# Altium footprint library PcbLib1.PcbLib: 17 footprints (part 1 of 2)
Each footprint in its own frame and in the unit in brackets; x right, y up, seen from the top. Pads: shape width x height; smd on the part's side, far side on the other; paste and mask are expansions set on the pad; w line width, h text height; cw(c..) or ccw(c..) is an arc to the next point about the centre after c.
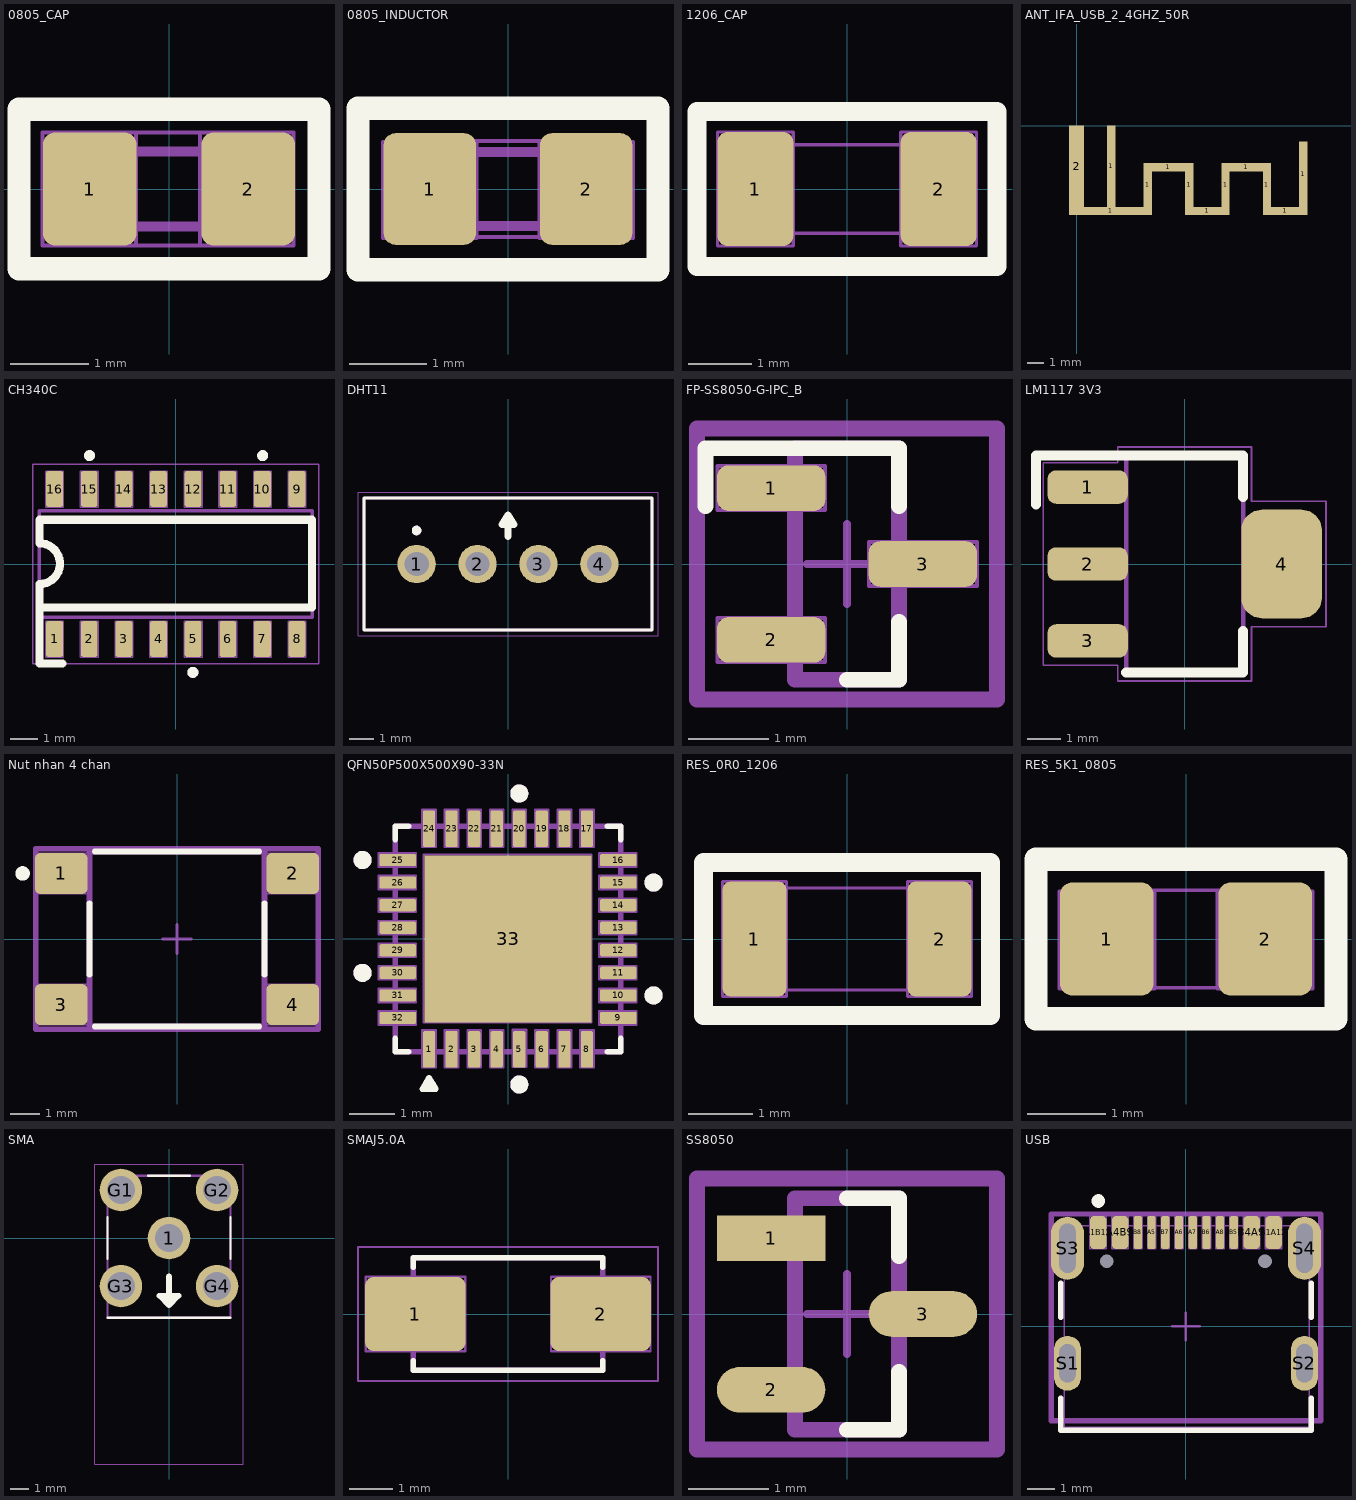
[diagram p0: the footprints below, top view; thin cyan lines are the x and y axes]

## 0805_CAP [mm]
pads (2):
  rrect25% 1.2x1.45 smd: 1(-1.016,0) 2(1.016,0)
Top Overlay:
  lines w0.3: -1.925,-1.025 1.925,-1.025 1.925,1.025 -1.925,1.025 -1.925,-1.025
Mechanical 2:
  lines w0.05: -1,-0.725 -1,0.725 ; -0.425,-0.725 -0.425,0.725 ; 0.4,-0.725 0.4,0.725 ; 1.025,-0.725 1.025,0.725 ; -1.625,-0.725 -1.625,0.725 1.6,0.725 1.6,-0.725 -1.625,-0.725
Mechanical 13:
  lines w0.127: -0.88,-0.48 -0.88,0.48 0.88,0.48 0.88,-0.48 -0.88,-0.48
3D body "CL21B224KAFNNNE.STEP": height 1.22, standoff -0.03, extent -1,-0.675 1,0.675

## 0805_INDUCTOR [mm]
pads (2):
  rrect25% 1.2x1.45 smd: 1(-1.016,0) 2(1.016,0)
Top Overlay:
  lines w0.3: -1.95,-1.05 1.95,-1.05 1.95,1.05 -1.95,1.05 -1.95,-1.05
Mechanical 2:
  lines w0.05: -1.6,0.61 -1.626,0.61 ; 0.85,-0.625 0.9,-0.625 ; -1.626,0.61 -0.406,0.61 -0.406,-0.635 -1.626,-0.635 -1.626,0.61 ; -1,-0.625 1,-0.625 1,0.625 -1,0.625 -1,-0.625 ; 0.406,-0.635 1.626,-0.635 1.626,0.61 0.406,0.61 0.406,-0.635
Mechanical 13:
  lines w0.127: -0.88,-0.48 -0.88,0.48 0.88,0.48 0.88,-0.48 -0.88,-0.48
3D body "step_temp.STEP": height 1, standoff 0, extent -1,-0.625 1,0.625

## 1206_CAP [mm]
pads (2):
  rrect25% 1.2x1.8 smd mask+0.1: 1(-1.45,0) 2(1.45,0)
Top Overlay:
  lines w0.3: -2.375,-1.225 2.375,-1.225 2.375,1.225 -2.375,1.225 -2.375,-1.225
Mechanical 2:
  lines w0.05: -2.05,-0.9 -2.05,0.9 -0.85,0.9 -0.85,-0.9 -2.05,-0.9 ; -1.65,-0.7 1.65,-0.7 1.65,0.7 -1.65,0.7 -1.65,-0.7 ; 0.85,-0.9 0.85,0.9 2.05,0.9 2.05,-0.9 0.85,-0.9
3D body "C1206X104J3REC7210.STEP": height 1.57, standoff -0.03, extent -1.65,-0.7 1.65,0.7

## ANT_IFA_USB_2_4GHZ_50R [mm]
pads (12):
  rect 5x0.5 smd paste+0 mask+0.102: 1(2.05,-5.15)
  rect 0.5x4.9 smd paste+0 mask+0.102: 1(2.1,-2.45)
  rect 0.5x2.64 smd paste+0 mask+0.102: 1(4.3,-3.58) 1(6.8,-3.58) 1(9,-3.58) 1(11.5,-3.58)
  rect 2x0.5 smd paste+0 mask+0.102: 1(5.55,-2.51) 1(10.25,-2.51)
  rect 2.7x0.5 smd paste+0 mask+0.102: 1(7.9,-5.15) 1(12.6,-5.15)
  rect 0.5x3.94 smd paste+0 mask+0.102: 1(13.7,-2.93)
  rect 0.9x4.9 smd paste+0 mask+0.102: 2(0,-2.45)

## CH340C [mm]
pads (16):
  rrect25% 0.62x1.31 smd: 1(-4.445,-2.75) 2(-3.175,-2.75) 3(-1.905,-2.75) 4(-0.635,-2.75) 5(0.635,-2.75) 6(1.905,-2.75) 7(3.175,-2.75) 8(4.445,-2.75) 9(4.445,2.75) 10(3.175,2.75) 11(1.905,2.75) 12(0.635,2.75) 13(-0.635,2.75) 14(-1.905,2.75) 15(-3.175,2.75) 16(-4.445,2.75)
Top Overlay:
  circle w0.2: c-3.165,3.975 r0.1
  circle w0.2: c3.185,3.975 r0.1
  circle w0.2: c0.625,-3.975 r0.1
  lines w0.3: -5,-0.794 -5,-1.6 ; -5,-0.738 ccw(c-5,0.013) -5,0.763 ; -5,0.819 -5,1.625 4.996,1.625 4.996,-1.6 -5,-1.6 ; -4.15,-3.65 -5,-3.65 -5,-1.6
Mechanical 2:
  lines w0.05: -3.475,-2.1 -3.5,-2.1 ; -3.5,-2.1 -2.85,-2.1 -2.85,-3.425 -3.5,-3.425 -3.5,-2.1 ; -4.77,-3.425 -4.12,-3.425 -4.12,-2.1 -4.77,-2.1 -4.77,-3.425 ; -4.77,2.075 -4.12,2.075 -4.12,3.4 -4.77,3.4 -4.77,2.075 ; -3.5,2.075 -2.85,2.075 -2.85,3.4 -3.5,3.4 -3.5,2.075 ; -2.23,-3.425 -1.58,-3.425 -1.58,-2.1 -2.23,-2.1 -2.23,-3.425 ; -2.23,2.075 -1.58,2.075 -1.58,3.4 -2.23,3.4 -2.23,2.075 ; -0.96,-3.425 -0.31,-3.425 -0.31,-2.1 -0.96,-2.1 -0.96,-3.425 ; -0.96,2.075 -0.31,2.075 -0.31,3.4 -0.96,3.4 -0.96,2.075 ; 0.31,-3.425 0.96,-3.425 0.96,-2.1 0.31,-2.1 0.31,-3.425 ; 0.31,2.075 0.96,2.075 0.96,3.4 0.31,3.4 0.31,2.075 ; 1.58,-3.425 2.23,-3.425 2.23,-2.1 1.58,-2.1 1.58,-3.425 ; 1.58,2.075 2.23,2.075 2.23,3.4 1.58,3.4 1.58,2.075 ; 2.85,-3.425 3.5,-3.425 3.5,-2.1 2.85,-2.1 2.85,-3.425 ; 2.85,2.075 3.5,2.075 3.5,3.4 2.85,3.4 2.85,2.075 ; 4.12,-3.425 4.77,-3.425 4.77,-2.1 4.12,-2.1 4.12,-3.425 ; 4.12,2.075 4.77,2.075 4.77,3.4 4.12,3.4 4.12,2.075
  lines w0.127: -5,-1.95 -5,1.95 5,1.95 5,-1.95 -5,-1.95
Mechanical 13:
  circle w0.2: c0.625,-3.975 r0.1
Mechanical 15:
  lines w0.05: -5.25,-3.655 5.25,-3.655 5.25,3.655 -5.25,3.655 -5.25,-3.655
3D body "step_temp.STEP": height 1.8, standoff 0, extent -5,-3 5,3

## DHT11 [mm]
pads (4):
  round 1.6 hole 1.016: 1(-3.81,0) 2(-1.27,0) 3(1.27,0) 4(3.81,0)
Top Overlay:
  circle w0.2: c-3.81,1.397 r0.1
  lines w0.127: -6,-2.75 -6,2.75 6,2.75 6,-2.75 -6,-2.75
  lines w0.3: 0,1.143 0,2.032 ; 0,2.032 0.254,1.651 -0.254,1.651 0,2.032
Mechanical 13:
  circle w0.2: c-3.81,1.397 r0.1
  lines w0.127: -6,-2.75 6,-2.75 6,2.75 -6,2.75 -6,-2.75
Mechanical 15:
  lines w0.05: -6.25,-3 6.25,-3 6.25,3 -6.25,3 -6.25,-3
3D body "ADA386--3DModel-STEP-56544.STEP": height 16, standoff -7.5, extent -6,-2.75 6,2.75

## FP-SS8050-G-IPC_B [mm]
pads (3):
  rrect50% 1.357x0.572 smd paste+0 mask+0: 1(-0.951,0.95) 2(-0.951,-0.95) 3(0.951,0)
Top Overlay:
  lines w0.2: -1.775,0.725 -1.775,1.45 0.65,1.45 0.65,0.725 ; 0,-1.45 0.65,-1.45 0.65,-0.725
Mechanical 2:
  lines w0.05: -1.625,-1.225 -1.625,-0.675 -0.275,-0.675 -0.275,-1.225 -1.625,-1.225 ; -1.625,0.675 -1.625,1.225 -0.275,1.225 -0.275,0.675 -1.625,0.675 ; -0.65,-1.45 0.65,-1.45 0.65,1.45 -0.65,1.45 -0.65,-1.45 ; 0.276,-0.275 0.276,0.275 1.626,0.275 1.626,-0.275 0.276,-0.275
  text ".Designator" at 0,-0.001 h1
Top 3D Body:
  lines w0.2: -0.65,-1.45 -0.65,1.45 0.65,1.45 0.65,-1.45 -0.65,-1.45
Top Courtyard:
  lines w0.2: -1.879,-1.7 -1.879,1.7 1.879,1.7 1.879,-1.7 -1.879,-1.7
Top Assembly:
  lines w0.2: -1.879,-1.7 -1.879,1.7 1.879,1.7 1.879,-1.7 -1.879,-1.7
Top Component Center:
  lines w0.1: -0.5,0 0.5,0 ; 0,-0.5 0,0.5
3D body "Trans_Comchip_SS8050-G_eec.STEP": height 0.25, standoff 0, extent -1.879,-1.7 1.879,1.7

## LM1117 3V3 [mm]
pads (4):
  rrect50% 2.4x1 smd: 1(-2.9,2.3) 2(-2.9,0) 3(-2.9,-2.3)
  rrect50% 2.4x3.25 smd: 4(2.9,0)
Top Overlay:
  lines w0.3: -4.445,1.778 -4.445,3.25 1.75,3.25 1.75,2.01 ; -1.75,-3.25 1.75,-3.25 1.75,-2.01
Mechanical 13:
  lines w0.127: -1.75,-3.25 1.75,-3.25 1.75,3.25 -1.75,3.25 -1.75,-3.25
Mechanical 15:
  lines w0.05: -4.225,-3.025 -2,-3.025 -2,-3.5 2,-3.5 2,-1.875 4.225,-1.875 4.225,1.875 2,1.875 2,3.5 -2,3.5 -2,3.025 -4.225,3.025 -4.225,-3.025
3D body "step_temp.STEP": height 1.8, standoff 0, extent -3.499,-3.25 3.499,3.25

## Nut nhan 4 chan [mm]
pads (4):
  rrect25% 1.8x1.4 smd paste+0 mask+0: 1(-3.975,2.25) 2(3.975,2.25) 3(-3.975,-2.25) 4(3.975,-2.25)
Top Overlay:
  circle w0.25: c-5.3,2.25 r0.125
  lines w0.2: -3,-1.225 -3,1.225 ; -2.825,-3 2.825,-3 ; -2.825,3 2.825,3 ; 3,-1.225 3,1.225
Mechanical 2:
  lines w0.05: -4.875,-2.95 -3.075,-2.95 -3.075,-1.55 -4.875,-1.55 -4.875,-2.95 ; -4.875,1.55 -3.075,1.55 -3.075,2.95 -4.875,2.95 -4.875,1.55 ; -3,-3 -3,3 3,3 3,-3 -3,-3 ; 3.075,-2.95 4.875,-2.95 4.875,-1.55 3.075,-1.55 3.075,-2.95 ; 3.075,1.55 4.875,1.55 4.875,2.95 3.075,2.95 3.075,1.55
  text ".Designator" at 0,0.187 h1
Top 3D Body:
  lines w0.2: -3,-3 3,-3 3,3 -3,3 -3,-3
Top Courtyard:
  lines w0.2: -4.85,-3.1 4.85,-3.1 4.85,3.1 -4.85,3.1 -4.85,-3.1
Top Assembly:
  lines w0.2: -4.85,-3.1 4.85,-3.1 4.85,3.1 -4.85,3.1 -4.85,-3.1
Top Component Center:
  lines w0.1: -0.5,0 0.5,0 ; 0,-0.5 0,0.5
3D body "User Library-PTS645SL43SMTR92-LFS.STEP": height 4.3, standoff 0, extent -4.5,-3 4.5,3

## QFN50P500X500X90-33N [mm]
height 0.9
pads (33):
  rrect25% 0.27x0.81 smd mask+0: 1(-1.75,-2.445) 2(-1.25,-2.445) 3(-0.75,-2.445) 4(-0.25,-2.445) 5(0.25,-2.445) 6(0.75,-2.445) 7(1.25,-2.445) 8(1.75,-2.445) 17(1.75,2.445) 18(1.25,2.445) 19(0.75,2.445) 20(0.25,2.445) 21(-0.25,2.445) 22(-0.75,2.445) 23(-1.25,2.445) 24(-1.75,2.445)
  rrect25% 0.81x0.27 smd mask+0: 9(2.445,-1.75) 10(2.445,-1.25) 11(2.445,-0.75) 12(2.445,-0.25) 13(2.445,0.25) 14(2.445,0.75) 15(2.445,1.25) 16(2.445,1.75) 25(-2.445,1.75) 26(-2.445,1.25) 27(-2.445,0.75) 28(-2.445,0.25) 29(-2.445,-0.25) 30(-2.445,-0.75) 31(-2.445,-1.25) 32(-2.445,-1.75)
  rect 3.7x3.7 smd paste-0.68 mask+0.05: 33(0,0)
Top Overlay:
  circle w0.2: c0.25,-3.225 r0.1
  circle w0.2: c3.225,-1.25 r0.1
  circle w0.2: c3.225,1.25 r0.1
  circle w0.2: c0.25,3.225 r0.1
  circle w0.2: c-3.225,1.75 r0.1
  circle w0.2: c-3.225,-0.75 r0.1
  lines w0.127: -2.5,-2.205 -2.5,-2.5 -2.205,-2.5 ; -2.5,2.205 -2.5,2.5 -2.205,2.5 ; -1.825,-3.2 -1.675,-3.2 ; 2.205,-2.5 2.5,-2.5 2.5,-2.205 ; 2.205,2.5 2.5,2.5 2.5,2.205 ; -1.9,-3.325 -1.6,-3.325 -1.75,-3.075 -1.9,-3.325
Top Solder:
  drawing of 32 lines, arcs and shapes, not listed
Mechanical 2:
  lines w0.05: 2.025,-1.9 2.025,-1.6 ; 2.025,-1.9 2.025,-1.6 ; 2.025,-1.9 2.85,-1.9 ; 2.025,-1.9 2.85,-1.9 ; 2.025,-1.6 2.85,-1.6 ; 2.025,-1.6 2.85,-1.6 ; 2.85,-1.9 2.85,-1.6 ; 2.85,-1.9 2.85,-1.6 ; -2.865,-1.9 -2.865,-1.6 -2.04,-1.6 -2.04,-1.9 -2.865,-1.9 ; -2.865,-1.4 -2.865,-1.1 -2.04,-1.1 -2.04,-1.4 -2.865,-1.4 ; -2.865,-0.9 -2.865,-0.6 -2.04,-0.6 -2.04,-0.9 -2.865,-0.9 ; -2.865,-0.4 -2.865,-0.1 -2.04,-0.1 -2.04,-0.4 -2.865,-0.4 ; -2.865,0.1 -2.865,0.4 -2.04,0.4 -2.04,0.1 -2.865,0.1 ; -2.865,0.6 -2.865,0.9 -2.04,0.9 -2.04,0.6 -2.865,0.6 ; -2.865,1.1 -2.865,1.4 -2.04,1.4 -2.04,1.1 -2.865,1.1 ; -2.865,1.6 -2.865,1.9 -2.04,1.9 -2.04,1.6 -2.865,1.6 ; -1.9,-2.85 -1.9,-2.025 -1.6,-2.025 -1.6,-2.85 -1.9,-2.85 ; -1.9,2.04 -1.9,2.865 -1.6,2.865 -1.6,2.04 -1.9,2.04 ; -1.875,-1.85 -1.875,1.875 1.85,1.875 1.85,-1.85 -1.875,-1.85 ; -1.4,-2.85 -1.4,-2.025 -1.1,-2.025 -1.1,-2.85 -1.4,-2.85 ; -1.4,2.04 -1.4,2.865 -1.1,2.865 -1.1,2.04 -1.4,2.04 ; -0.9,-2.85 -0.9,-2.025 -0.6,-2.025 -0.6,-2.85 -0.9,-2.85 ; -0.9,2.04 -0.9,2.865 -0.6,2.865 -0.6,2.04 -0.9,2.04 ; -0.4,-2.85 -0.4,-2.025 -0.1,-2.025 -0.1,-2.85 -0.4,-2.85 ; -0.4,2.04 -0.4,2.865 -0.1,2.865 -0.1,2.04 -0.4,2.04 ; 0.1,2.04 0.1,2.865 0.4,2.865 0.4,2.04 0.1,2.04 ; 0.106,-2.837 0.106,-2.012 0.406,-2.012 0.406,-2.837 0.106,-2.837 ; 0.6,-2.85 0.6,-2.025 0.9,-2.025 0.9,-2.85 0.6,-2.85 ; 0.6,2.04 0.6,2.865 0.9,2.865 0.9,2.04 0.6,2.04 ; 1.1,-2.85 1.1,-2.025 1.4,-2.025 1.4,-2.85 1.1,-2.85 ; 1.1,2.04 1.1,2.865 1.4,2.865 1.4,2.04 1.1,2.04 ; 1.6,-2.85 1.6,-2.025 1.9,-2.025 1.9,-2.85 1.6,-2.85 ; 1.6,2.04 1.6,2.865 1.9,2.865 1.9,2.04 1.6,2.04 ; 2.025,-1.4 2.025,-1.1 2.85,-1.1 2.85,-1.4 2.025,-1.4 ; 2.025,-0.9 2.025,-0.6 2.85,-0.6 2.85,-0.9 2.025,-0.9 ; 2.025,-0.4 2.025,-0.1 2.85,-0.1 2.85,-0.4 2.025,-0.4 ; 2.025,0.1 2.025,0.4 2.85,0.4 2.85,0.1 2.025,0.1 ; 2.025,0.6 2.025,0.9 2.85,0.9 2.85,0.6 2.025,0.6 ; 2.025,1.1 2.025,1.4 2.85,1.4 2.85,1.1 2.025,1.1 ; 2.025,1.6 2.025,1.9 2.85,1.9 2.85,1.6 2.025,1.6
Mechanical 13:
  circle w0.2: c0.25,-3.225 r0.1
  circle w0.2: c3.225,-1.25 r0.1
  circle w0.2: c3.225,1.25 r0.1
  circle w0.2: c0.25,3.225 r0.1
  circle w0.2: c-3.225,1.75 r0.1
  circle w0.2: c-3.225,-0.75 r0.1
  lines w0.127: -2.5,-2.5 -2.5,2.5 2.5,2.5 2.5,-2.5 -2.5,-2.5
3D body "step_temp.STEP": height 0.9, standoff 0, extent -2.5,-2.5 2.5,2.5

## RES_0R0_1206 [mm]
pads (2):
  rrect25% 1x1.8 smd mask+0.1: 1(-1.45,0) 2(1.45,0)
Top Overlay:
  lines w0.3: -2.25,-1.2 -2.25,1.2 2.25,1.2 2.25,-1.2 -2.25,-1.2
Mechanical 2:
  lines w0.05: -1.95,-0.9 -1.95,0.9 -0.95,0.9 -0.95,-0.9 -1.95,-0.9 ; -1.6,-0.8 -1.6,0.8 1.6,0.8 1.6,-0.8 -1.6,-0.8 ; 0.95,-0.9 0.95,0.9 1.95,0.9 1.95,-0.9 0.95,-0.9
3D body "ERJS080R00V.STEP": height 0.6, standoff 0, extent -1.6,-0.8 1.6,0.8

## RES_5K1_0805 [mm]
pads (2):
  rrect25% 1.2x1.45 smd: 1(-1.016,0) 2(1.016,0)
Top Overlay:
  lines w0.3: -1.925,-1.025 -1.925,1.025 1.925,1.025 1.925,-1.025 -1.925,-1.025
Mechanical 2:
  lines w0.05: -1.6,0.61 -1.626,0.61 ; 0.85,-0.625 0.9,-0.625 ; -1.626,0.61 -1.626,-0.635 -0.406,-0.635 -0.406,0.61 -1.626,0.61 ; -1,-0.625 -1,0.625 1,0.625 1,-0.625 -1,-0.625 ; 0.406,-0.635 0.406,0.61 1.626,0.61 1.626,-0.635 0.406,-0.635
3D body "ERA6AHD200V.STEP": height 0.6, standoff 0, extent -1,-0.625 1,0.625

## SMA [mm]
pads (5):
  round 2.25 hole 1.5: 1(0,0) G1(-2.54,2.54) G2(2.54,2.54) G3(-2.54,-2.54) G4(2.54,-2.54)
Top Overlay:
  lines w0.127: -3.25,-4.207 3.25,-4.207 ; -3.25,-1.095 -3.25,1.095 ; -1.095,3.3 1.095,3.3 ; 3.25,-1.095 3.25,1.095
  lines w0.3: 0,-2.032 0,-3.556 ; 0,-3.556 0.508,-3.048 -0.508,-3.048 0,-3.556
Mechanical 13:
  lines w0.127: -3.25,-4.207 3.25,-4.207 ; -3.25,-4.191 -3.25,3.3 3.25,3.3 3.25,-4.191
Mechanical 15:
  lines w0.05: -3.915,-11.95 -3.915,3.915 3.915,3.915 3.915,-11.95 -3.915,-11.95
3D body "step_temp.STEP": height 9.65, standoff -4.05, extent -3.225,-11.77 3.225,3.23

## SMAJ5.0A [mm]
pads (2):
  rrect25% 2.3x1.7 smd: 1(-2.115,0) 2(2.115,0)
Top Overlay:
  lines w0.127: -2.165,-1.07 -2.165,-1.28 2.165,-1.28 2.165,-1.07 ; -2.165,1.07 -2.165,1.28 2.165,1.28 2.165,1.07
Mechanical 2:
  lines w0.05: -3.25,-0.85 -0.975,-0.85 -0.975,0.85 -3.25,0.85 -3.25,-0.85 ; 0.98,-0.85 3.255,-0.85 3.255,0.85 0.98,0.85 0.98,-0.85
Mechanical 13:
  lines w0.127: -2.165,-1.28 2.165,-1.28 2.165,1.28 -2.165,1.28 -2.165,-1.28
Mechanical 15:
  lines w0.05: -3.425,-1.53 3.425,-1.53 3.425,1.53 -3.425,1.53 -3.425,-1.53
3D body "step_temp.STEP": height 2.65, standoff 0, extent -2.538,-1.288 2.538,1.288

## SS8050 [mm]
pads (3):
  rect 1.357x0.572 smd paste+0 mask+0: 1(-0.951,0.95)
  rrect100% 1.357x0.572 smd paste+0 mask+0: 2(-0.951,-0.95) 3(0.951,0)
Top Overlay:
  lines w0.2: 0,-1.45 0.65,-1.45 0.65,-0.725 ; 0,1.45 0.65,1.45 0.65,0.725
Mechanical 2:
  text ".Designator" at 0,-0.001 h1
Top 3D Body:
  lines w0.2: -0.65,-1.45 -0.65,1.45 0.65,1.45 0.65,-1.45 -0.65,-1.45
Top Courtyard:
  lines w0.2: -1.879,-1.7 -1.879,1.7 1.879,1.7 1.879,-1.7 -1.879,-1.7
Top Assembly:
  lines w0.2: -1.879,-1.7 -1.879,1.7 1.879,1.7 1.879,-1.7 -1.879,-1.7
Top Component Center:
  lines w0.1: -0.5,0 0.5,0 ; 0,-0.5 0,0.5
3D body "Trans_Comchip_SS8050-G_eec.STEP": height 0.25, standoff 0, extent -1.879,-1.7 1.879,1.7

## USB [mm]
pads (18):
  rrect50% 0.6x1.2 smd paste+0 mask+0: A1B12(-3.2,3.425) A4B9(-2.4,3.425) B1A12(3.2,3.425) B4A9(2.4,3.425)
  rrect50% 0.3x1.2 smd paste+0 mask+0: A5(-1.25,3.425) A6(-0.25,3.425) A7(0.25,3.425) A8(1.25,3.425) B5(1.75,3.425) B6(0.75,3.425) B7(-0.75,3.425) B8(-1.75,3.425)
  rrect100% 1x2 hole 1.4 slot 0.6 at 0 deg paste-2539.97 mask+0: S1(-4.32,-1.35) S2(4.33,-1.35)
  rrect100% 1.2x2.3 hole 1.8 slot 0.6 at 0 deg paste-2539.97 mask+0: S3(-4.32,2.85) S4(4.33,2.85)
  round 0 hole 0.5 paste-2539.97 mask+0: ""(-2.89,2.375)
  rrect100% 0x0 hole 0.5 paste-2539.97 mask+0: ""(2.89,2.375)
Top Overlay:
  circle w0.25: c-3.195,4.575 r0.125
  lines w0.2: -4.57,-2.625 -4.57,-3.8 4.57,-3.8 4.57,-2.625 ; -4.57,0.325 -4.57,1.575 ; 4.57,0.325 4.57,1.575
Mechanical 2:
  lines w0.05: -4.445,-3.675 -4.445,3.675 4.495,3.675 4.495,-3.675 -4.445,-3.675 ; -3.5,2.825 -3.5,4.025 -2.9,4.025 -2.9,2.825 -3.5,2.825 ; -2.7,2.825 -2.7,4.025 -2.1,4.025 -2.1,2.825 -2.7,2.825 ; -1.9,2.825 -1.9,4.025 -1.6,4.025 -1.6,2.825 -1.9,2.825 ; -1.4,2.825 -1.4,4.025 -1.1,4.025 -1.1,2.825 -1.4,2.825 ; -0.9,2.825 -0.9,4.025 -0.6,4.025 -0.6,2.825 -0.9,2.825 ; -0.4,2.825 -0.4,4.025 -0.1,4.025 -0.1,2.825 -0.4,2.825 ; 0.1,2.825 0.1,4.025 0.4,4.025 0.4,2.825 0.1,2.825 ; 0.6,2.825 0.6,4.025 0.9,4.025 0.9,2.825 0.6,2.825 ; 1.1,2.825 1.1,4.025 1.4,4.025 1.4,2.825 1.1,2.825 ; 1.6,2.825 1.6,4.025 1.9,4.025 1.9,2.825 1.6,2.825 ; 2.1,2.825 2.1,4.025 2.7,4.025 2.7,2.825 2.1,2.825 ; 2.9,2.825 2.9,4.025 3.5,4.025 3.5,2.825 2.9,2.825
  text ".Designator" at 0,0.512 h1
Top Courtyard:
  lines w0.2: -4.92,-3.45 -4.92,4.1 4.92,4.1 4.92,-3.45 -4.92,-3.45
Top Assembly:
  lines w0.2: -4.92,-3.45 -4.92,4.1 4.92,4.1 4.92,-3.45 -4.92,-3.45
Top Component Center:
  lines w0.1: -0.5,0 0.5,0 ; 0,-0.5 0,0.5
3D body "Conn_Molex_2171790001_eec.STEP": height 3.36, standoff -0.81, extent -4.47,-3.25 4.47,3.5